# EAGLE library part MAX7219 (library deiring-components)
LED Display Driver
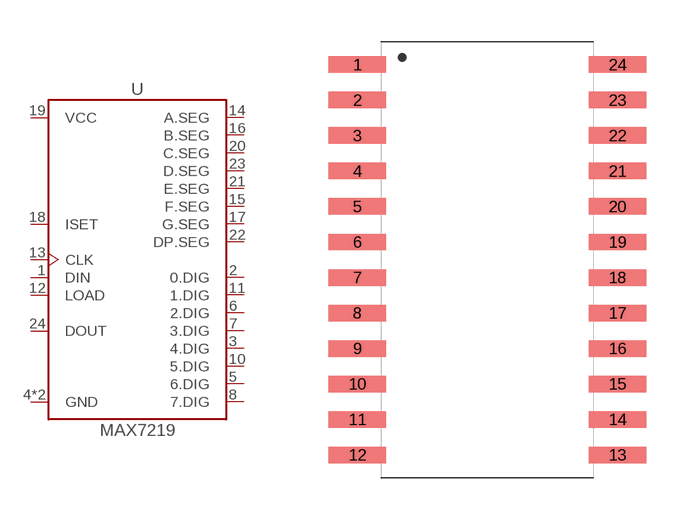
[diagram p14: symbol with the pads of SOIC-24; footprint SOIC-24]

Designator prefix U

## MAX7219-SOIC-24 (LCSC: C9964; MF: Maxim Integrated; MPN: MAX7219CWG+T; VALUE: MAX7219)  [SOIC-24]
1  DIN  in
2  0.DIG
3  4.DIG
4  GND  pwr
5  6.DIG
6  2.DIG
7  3.DIG
8  7.DIG
9  GND  pwr
10  5.DIG
11  1.DIG
12  LOAD  in
13  CLK  in
14  A.SEG
15  F.SEG
16  B.SEG
17  G.SEG
18  ISET
19  VCC  pwr
20  C.SEG
21  E.SEG
22  DP.SEG
23  D.SEG
24  DOUT  out

## Footprint SOIC-24 (pad centres in mm)
smd 2.05 x 0.59: 1 -4.655,6.985; 2 -4.655,5.715; 3 -4.655,4.445; 4 -4.655,3.175; 5 -4.655,1.905; 6 -4.655,0.635; 7 -4.655,-0.635; 8 -4.655,-1.905; 9 -4.655,-3.175; 10 -4.655,-4.445; 11 -4.655,-5.715; 12 -4.655,-6.985; 13 4.655,-6.985; 14 4.655,-5.715; 15 4.655,-4.445; 16 4.655,-3.175; 17 4.655,-1.905; 18 4.655,-0.635; 19 4.655,0.635; 20 4.655,1.905; 21 4.655,3.175; 22 4.655,4.445; 23 4.655,5.715; 24 4.655,6.985